# Altium schematic symbol library SCH - MCU - SI LABS - SI LABS EFR32FG1V232F256GM48 48-PIN QFN 7X7.SchLib: 1 symbol
Pins are listed as number, name and electrical type; pins without a type are passive.

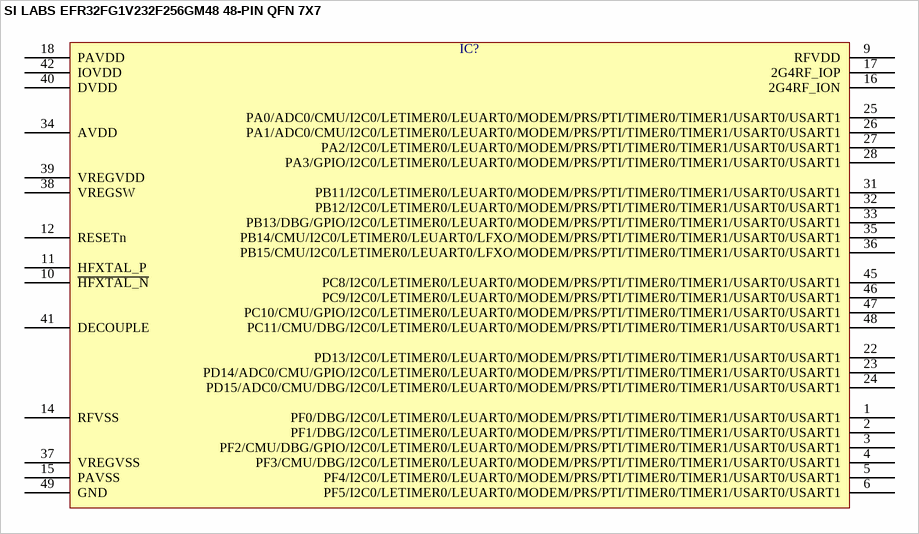
[diagram p0: symbol SI LABS EFR32FG1V232F256GM48 48-PIN QFN 7X7]

## SI LABS EFR32FG1V232F256GM48 48-PIN QFN 7X7
designator IC?  (value not drawn)
pins: 1 PF0/DBG/I2C0/LETIMER0/LEUART0/MODEM/PRS/PTI/TIMER0/TIMER1/USART0/USART1, 2 PF1/DBG/I2C0/LETIMER0/LEUART0/MODEM/PRS/PTI/TIMER0/TIMER1/USART0/USART1, 3 PF2/CMU/DBG/GPIO/I2C0/LETIMER0/LEUART0/MODEM/PRS/PTI/TIMER0/TIMER1/USART0/USART1, 4 PF3/CMU/DBG/I2C0/LETIMER0/LEUART0/MODEM/PRS/PTI/TIMER0/TIMER1/USART0/USART1, 5 PF4/I2C0/LETIMER0/LEUART0/MODEM/PRS/PTI/TIMER0/TIMER1/USART0/USART1, 6 PF5/I2C0/LETIMER0/LEUART0/MODEM/PRS/PTI/TIMER0/TIMER1/USART0/USART1, 9 RFVDD, 10 ~{HFXTAL_N}, 11 HFXTAL_P, 12 RESETn, 14 RFVSS, 15 PAVSS, 16 2G4RF_ION, 17 2G4RF_IOP, 18 PAVDD, 22 PD13/I2C0/LETIMER0/LEUART0/MODEM/PRS/PTI/TIMER0/TIMER1/USART0/USART1, 23 PD14/ADC0/CMU/GPIO/I2C0/LETIMER0/LEUART0/MODEM/PRS/PTI/TIMER0/TIMER1/USART0/USART1, 24 PD15/ADC0/CMU/DBG/I2C0/LETIMER0/LEUART0/MODEM/PRS/PTI/TIMER0/TIMER1/USART0/USART1, 25 PA0/ADC0/CMU/I2C0/LETIMER0/LEUART0/MODEM/PRS/PTI/TIMER0/TIMER1/USART0/USART1, 26 PA1/ADC0/CMU/I2C0/LETIMER0/LEUART0/MODEM/PRS/PTI/TIMER0/TIMER1/USART0/USART1, 27 PA2/I2C0/LETIMER0/LEUART0/MODEM/PRS/PTI/TIMER0/TIMER1/USART0/USART1, 28 PA3/GPIO/I2C0/LETIMER0/LEUART0/MODEM/PRS/PTI/TIMER0/TIMER1/USART0/USART1, 31 PB11/I2C0/LETIMER0/LEUART0/MODEM/PRS/PTI/TIMER0/TIMER1/USART0/USART1, 32 PB12/I2C0/LETIMER0/LEUART0/MODEM/PRS/PTI/TIMER0/TIMER1/USART0/USART1, 33 PB13/DBG/GPIO/I2C0/LETIMER0/LEUART0/MODEM/PRS/PTI/TIMER0/TIMER1/USART0/USART1, 34 AVDD, 35 PB14/CMU/I2C0/LETIMER0/LEUART0/LFXO/MODEM/PRS/PTI/TIMER0/TIMER1/USART0/USART1, 36 PB15/CMU/I2C0/LETIMER0/LEUART0/LFXO/MODEM/PRS/PTI/TIMER0/TIMER1/USART0/USART1, 37 VREGVSS, 38 VREGSW, 39 VREGVDD, 40 DVDD, 41 DECOUPLE, 42 IOVDD, 45 PC8/I2C0/LETIMER0/LEUART0/MODEM/PRS/PTI/TIMER0/TIMER1/USART0/USART1, 46 PC9/I2C0/LETIMER0/LEUART0/MODEM/PRS/PTI/TIMER0/TIMER1/USART0/USART1, 47 PC10/CMU/GPIO/I2C0/LETIMER0/LEUART0/MODEM/PRS/PTI/TIMER0/TIMER1/USART0/USART1, 48 PC11/CMU/DBG/I2C0/LETIMER0/LEUART0/MODEM/PRS/PTI/TIMER0/TIMER1/USART0/USART1, 49 GND